# Altium integrated library Common-Parts-Library-Altium.IntLib: 531 symbols (part 2 of 2)
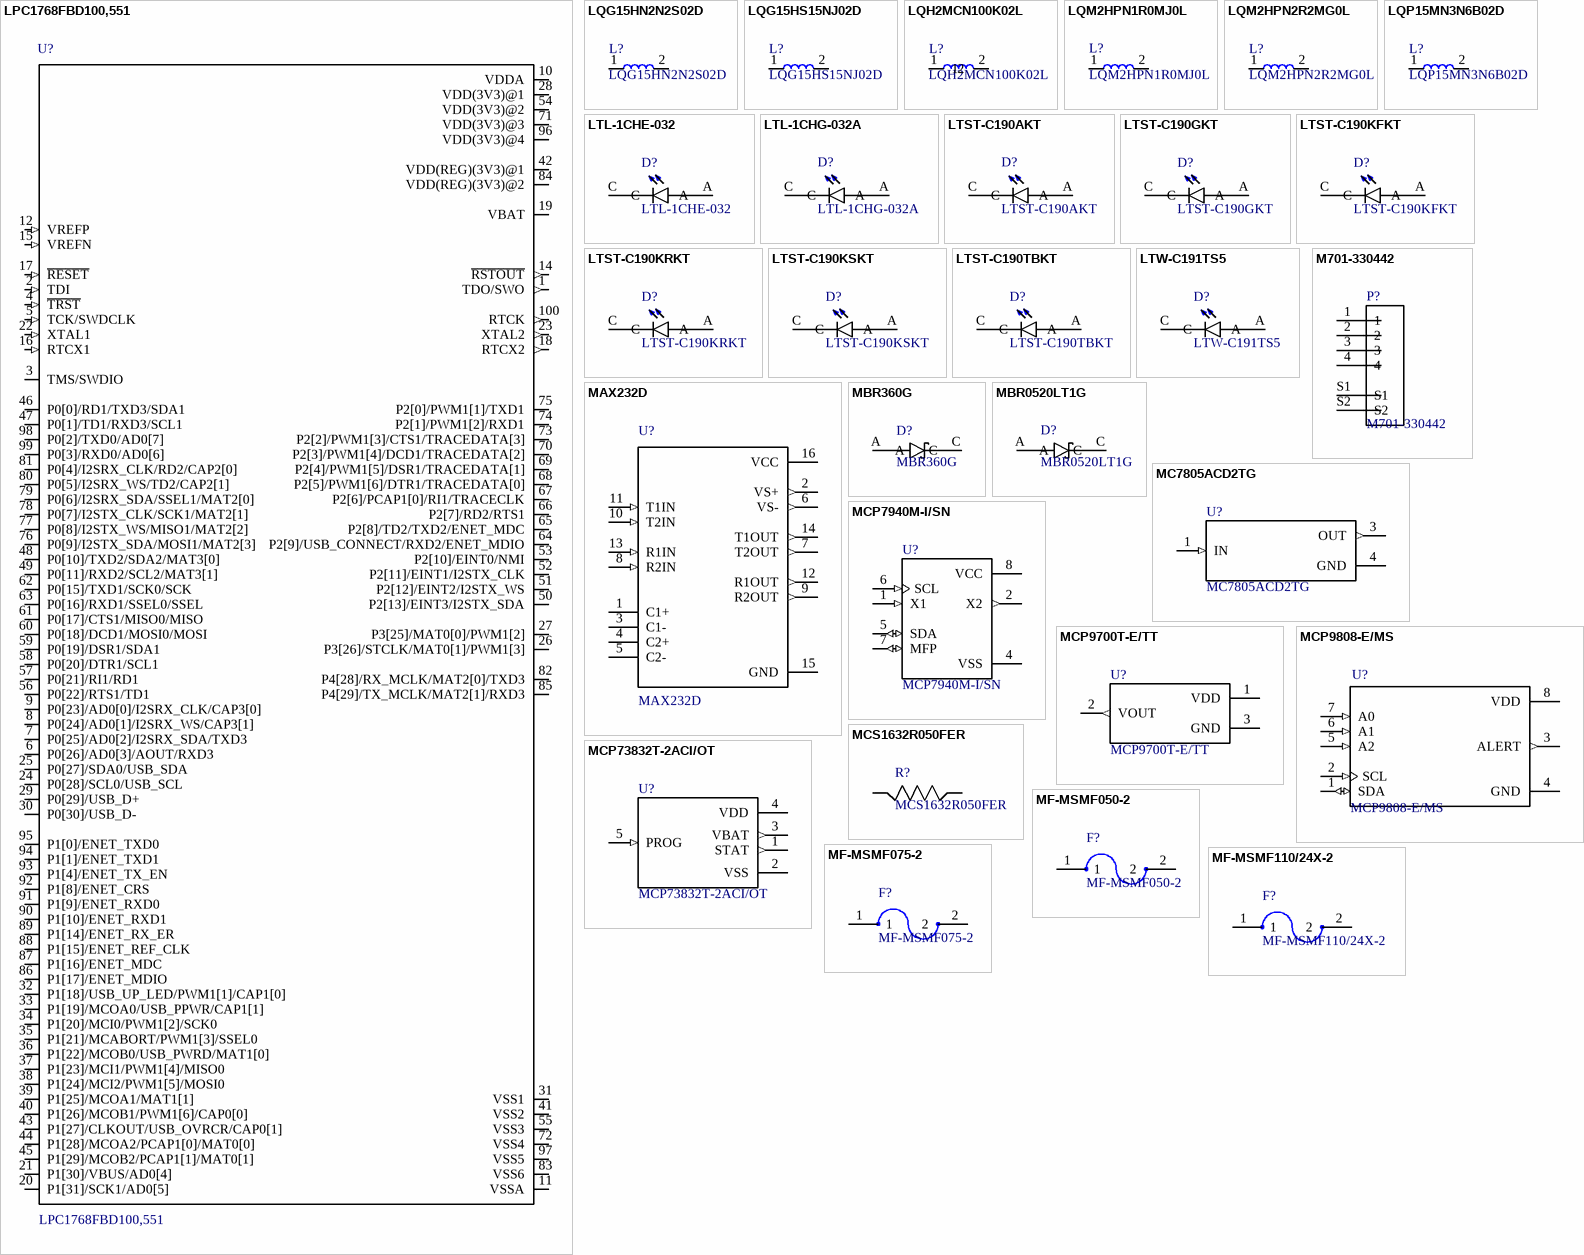
[diagram p15: symbols LPC1768FBD100,551 to MF-MSMF110/24X-2]

## LPC1768FBD100,551
designator U?
Value: *
footprint QFP50P1600X1600X160-100N
pins: 1 TDO/SWO (out), 2 TDI (in), 3 TMS/SWDIO (io), 4 ~{TRST} (in), 5 TCK/SWDCLK (in), 6 P0[26]/AD0[3]/AOUT/RXD3 (io), 7 P0[25]/AD0[2]/I2SRX_SDA/TXD3 (io), 8 P0[24]/AD0[1]/I2SRX_WS/CAP3[1] (io), 9 P0[23]/AD0[0]/I2SRX_CLK/CAP3[0] (io), 10 VDDA (power), 11 VSSA (power), 12 VREFP (in), 14 ~{RSTOUT} (out), 15 VREFN (in), 16 RTCX1 (in), 17 ~{RESET} (in), 18 RTCX2 (out), 19 VBAT (power), 20 P1[31]/SCK1/AD0[5] (io), 21 P1[30]/VBUS/AD0[4] (io), 22 XTAL1 (in), 23 XTAL2 (out), 24 P0[28]/SCL0/USB_SCL (io), 25 P0[27]/SDA0/USB_SDA (io), 26 P3[26]/STCLK/MAT0[1]/PWM1[3] (io), 27 P3[25]/MAT0[0]/PWM1[2] (io), 28 VDD(3V3)@1 (power), 29 P0[29]/USB_D+ (io), 30 P0[30]/USB_D- (io), 31 VSS1 (power), 32 P1[18]/USB_UP_LED/PWM1[1]/CAP1[0] (io), 33 P1[19]/MCOA0/USB_PPWR/CAP1[1] (io), 34 P1[20]/MCI0/PWM1[2]/SCK0 (io), 35 P1[21]/MCABORT/PWM1[3]/SSEL0 (io), 36 P1[22]/MCOB0/USB_PWRD/MAT1[0] (io), 37 P1[23]/MCI1/PWM1[4]/MISO0 (io), 38 P1[24]/MCI2/PWM1[5]/MOSI0 (io), 39 P1[25]/MCOA1/MAT1[1] (io), 40 P1[26]/MCOB1/PWM1[6]/CAP0[0] (io), 41 VSS2 (power), 42 VDD(REG)(3V3)@1 (power), 43 P1[27]/CLKOUT/USB_OVRCR/CAP0[1] (io), 44 P1[28]/MCOA2/PCAP1[0]/MAT0[0] (io), 45 P1[29]/MCOB2/PCAP1[1]/MAT0[1] (io), 46 P0[0]/RD1/TXD3/SDA1 (io), 47 P0[1]/TD1/RXD3/SCL1 (io), 48 P0[10]/TXD2/SDA2/MAT3[0] (io), 49 P0[11]/RXD2/SCL2/MAT3[1] (io), 50 P2[13]/EINT3/I2STX_SDA (io), 51 P2[12]/EINT2/I2STX_WS (io), 52 P2[11]/EINT1/I2STX_CLK (io), 53 P2[10]/EINT0/NMI (io), 54 VDD(3V3)@2 (power), 55 VSS3 (power), 56 P0[22]/RTS1/TD1 (io), 57 P0[21]/RI1/RD1 (io), 58 P0[20]/DTR1/SCL1 (io), 59 P0[19]/DSR1/SDA1 (io), 60 P0[18]/DCD1/MOSI0/MOSI (io), 61 P0[17]/CTS1/MISO0/MISO (io), 62 P0[15]/TXD1/SCK0/SCK (io), 63 P0[16]/RXD1/SSEL0/SSEL (io), 64 P2[9]/USB_CONNECT/RXD2/ENET_MDIO (io), 65 P2[8]/TD2/TXD2/ENET_MDC (io), 66 P2[7]/RD2/RTS1 (io), 67 P2[6]/PCAP1[0]/RI1/TRACECLK (io), 68 P2[5]/PWM1[6]/DTR1/TRACEDATA[0] (io), 69 P2[4]/PWM1[5]/DSR1/TRACEDATA[1] (io), 70 P2[3]/PWM1[4]/DCD1/TRACEDATA[2] (io), 71 VDD(3V3)@3 (power), 72 VSS4 (power), 73 P2[2]/PWM1[3]/CTS1/TRACEDATA[3] (io), 74 P2[1]/PWM1[2]/RXD1 (io), 75 P2[0]/PWM1[1]/TXD1 (io), 76 P0[9]/I2STX_SDA/MOSI1/MAT2[3] (io), 77 P0[8]/I2STX_WS/MISO1/MAT2[2] (io), 78 P0[7]/I2STX_CLK/SCK1/MAT2[1] (io), 79 P0[6]/I2SRX_SDA/SSEL1/MAT2[0] (io), 80 P0[5]/I2SRX_WS/TD2/CAP2[1] (io), 81 P0[4]/I2SRX_CLK/RD2/CAP2[0] (io), 82 P4[28]/RX_MCLK/MAT2[0]/TXD3 (io), 83 VSS6 (power), 84 VDD(REG)(3V3)@2 (power), 85 P4[29]/TX_MCLK/MAT2[1]/RXD3 (io), 86 P1[17]/ENET_MDIO (io), 87 P1[16]/ENET_MDC (io), 88 P1[15]/ENET_REF_CLK (io), 89 P1[14]/ENET_RX_ER (io), 90 P1[10]/ENET_RXD1 (io), 91 P1[9]/ENET_RXD0 (io), 92 P1[8]/ENET_CRS (io), 93 P1[4]/ENET_TX_EN (io), 94 P1[1]/ENET_TXD1 (io), 95 P1[0]/ENET_TXD0 (io), 96 VDD(3V3)@4 (power), 97 VSS5 (power), 98 P0[2]/TXD0/AD0[7] (io), 99 P0[3]/RXD0/AD0[6] (io), 100 RTCK (out)

## LQG15HN2N2S02D
designator L?
Value: *
footprint INDC1005X55
pins: 1, 2

## LQG15HS15NJ02D
designator L?
Value: *
footprint LQG15HS15NJ02D_INDC1005X55
pins: 1, 2

## LQH2MCN100K02L
designator L?
Value: *
footprint INDC2016X95
pins: 1, 2

## LQM2HPN1R0MJ0L
designator L?
Value: *
footprint INDC2520X120
pins: 1, 2

## LQM2HPN2R2MG0L
designator L?
Value: *
footprint INDC2520X100
pins: 1, 2

## LQP15MN3N6B02D
designator L?
Value: *
footprint INDC1005X45
pins: 1, 2

## LTL-1CHE-032
designator D?
Value: *
footprint LED_LTL-1CHE-032_LTL-1CHE-032(Primary)
pins: A, C

## LTL-1CHG-032A
designator D?
Value: *
footprint LED_LTL-1CHG-032A_LTL-1CHG-032A(Primary)
pins: A, C

## LTST-C190AKT
designator D?
Value: *
footprint LTST-C190AKT_LEDM1608X80_LTST-C190AKT(Primary)
pins: A, C

## LTST-C190GKT
designator D?
Value: *
footprint LTST-C190GKT_LEDM1608X80_LTST-C190GKT(Primary)
pins: A, C

## LTST-C190KFKT
designator D?
Value: *
footprint LTST-C190KFKT_LEDM1608X80_LTST-C190KFKT(Primary)
pins: A, C

## LTST-C190KRKT
designator D?
Value: *
footprint LTST-C190KRKT_LEDM1608X80_LTST-C190KRKT(Primary)
pins: A, C

## LTST-C190KSKT
designator D?
Value: *
footprint LTST-C190KSKT_LEDM1608X80_LTST-C190KSKT(Primary)
pins: A, C

## LTST-C190TBKT
designator D?
Value: *
footprint LEDM1608X80_LTST-C190TBKT(Primary)
pins: A, C

## LTW-C191TS5
designator D?
Value: *
footprint LEDM1608X55_LTW-C191TS5(Primary)
pins: A, C

## M701-330442
designator P?
Value: *
footprint HARWIN_M701-330442_M701-330442(Primary)
pins: 1, 2, 3, 4, S1, S2

## MAX232D
designator U?
Value: *
footprint SOIC127P600X175-16N
pins: 1 C1+, 2 VS+ (out), 3 C1-, 4 C2+, 5 C2-, 6 VS- (out), 7 T2OUT (out), 8 R2IN (in), 9 R2OUT (out), 10 T2IN (in), 11 T1IN (in), 12 R1OUT (out), 13 R1IN (in), 14 T1OUT (out), 15 GND (power), 16 VCC (power)

## MBR360G
designator D?
Value: *
footprint DIOAD950W125L840D505_MBR360G(Primary)
pins: A, C

## MBR0520LT1G
designator D?
Value: *
footprint SOD3716X135N_MBR0520LT1G(Primary)
pins: A, C

## MC7805ACD2TG
designator U?
Value: *
footprint TO254P1420X457-3N
pins: 1 IN (in), 3 OUT (out), 4 GND (power)

## MCP7940M-I/SN
designator U?
Value: *
footprint MCP7940M-I/SN_SOIC127P600X175-8N
pins: 1 X1 (in), 2 X2 (out), 4 VSS, 5 SDA (io), 6 SCL (in), 7 MFP (io), 8 VCC (power)

## MCP9700T-E/TT
designator U?
Value: *
footprint SOT95P237X112-3N
pins: 1 VDD (power), 2 VOUT (out), 3 GND (power)

## MCP9808-E/MS
designator U?
Value: *
footprint SOP65P490X110-8N
pins: 1 SDA (io), 2 SCL (in), 3 ALERT (out), 4 GND (power), 5 A2 (in), 6 A1 (in), 7 A0 (in), 8 VDD (power)

## MCP73832T-2ACI/OT
designator U?
Value: *
footprint SOT95P270X145-5N
pins: 1 STAT (out), 2 VSS (power), 3 VBAT (out), 4 VDD (power), 5 PROG (in)

## MCS1632R050FER
designator R?
Value: *
footprint RESC3216X62
pins: 1, 2

## MF-MSMF050-2
designator F?
Value: *
footprint MF-MSMF050-2_FUSM4632X85
pins: 1, 2

## MF-MSMF075-2
designator F?
Value: *
footprint FUSM4632X85
pins: 1, 2

## MF-MSMF110/24X-2
designator F?
Value: *
footprint FUSM4632X160
pins: 1, 2

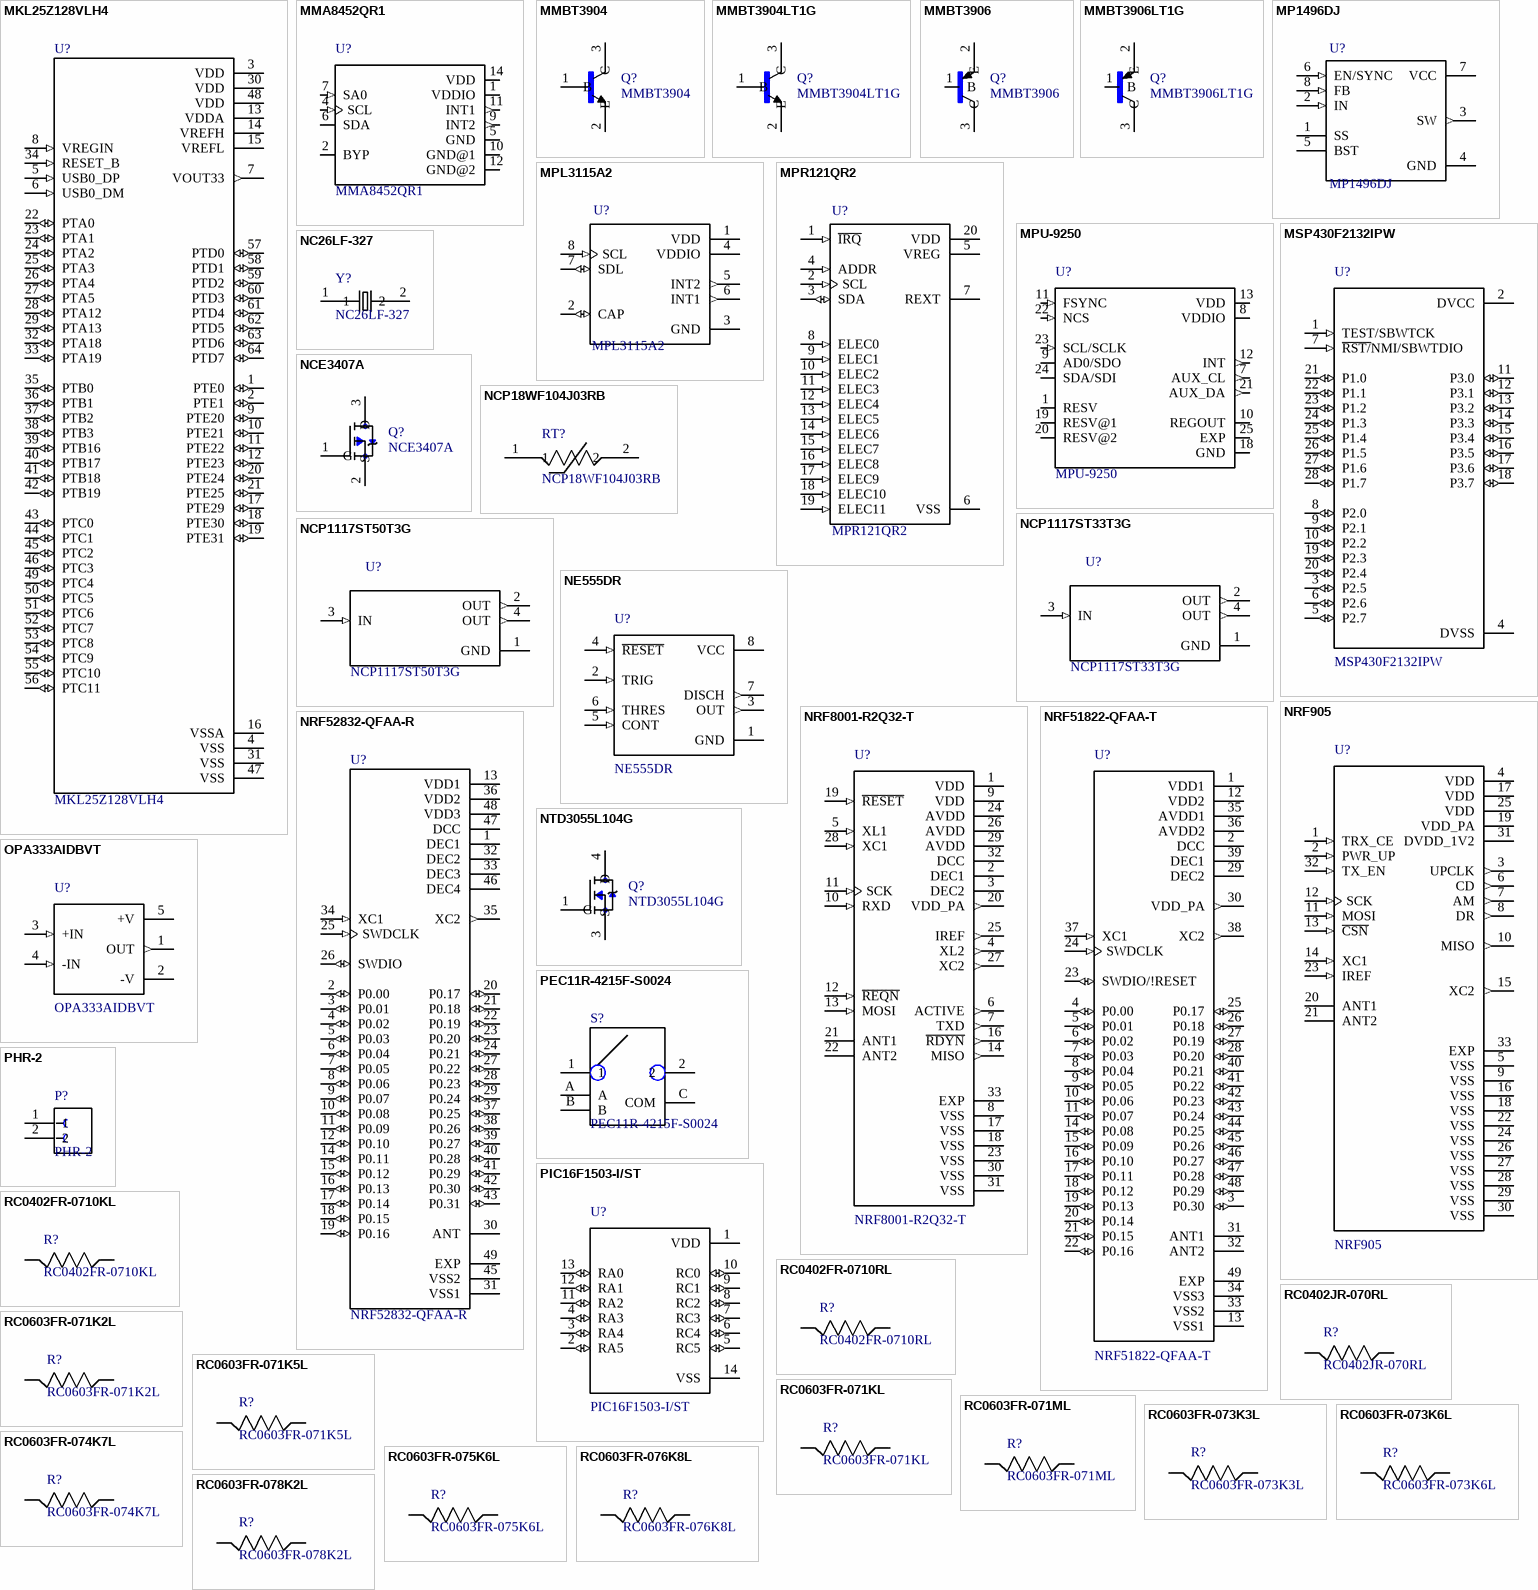
[diagram p11: symbols MKL25Z128VLH4 to RC0603FR-078K2L]

## MKL25Z128VLH4
designator U?
Value: *
footprint MKL25Z128VLH4_QFP50P1200X1200X160-64N
pins: 1 PTE0 (io), 2 PTE1 (io), 3 VDD (power), 4 VSS (power), 5 USB0_DP (in), 6 USB0_DM (in), 7 VOUT33 (out), 8 VREGIN (in), 9 PTE20 (io), 10 PTE21 (io), 11 PTE22 (io), 12 PTE23 (io), 13 VDDA (power), 14 VREFH (power), 15 VREFL (power), 16 VSSA (power), 17 PTE29 (io), 18 PTE30 (io), 19 PTE31 (io), 20 PTE24 (io), 21 PTE25 (io), 22 PTA0 (io), 23 PTA1 (io), 24 PTA2 (io), 25 PTA3 (io), 26 PTA4 (io), 27 PTA5 (io), 28 PTA12 (io), 29 PTA13 (io), 30 VDD (power), 31 VSS (power), 32 PTA18 (io), 33 PTA19 (io), 34 RESET_B (in), 35 PTB0 (io), 36 PTB1 (io), 37 PTB2 (io), 38 PTB3 (io), 39 PTB16 (io), 40 PTB17 (io), 41 PTB18 (io), 42 PTB19 (io), 43 PTC0 (io), 44 PTC1 (io), 45 PTC2 (io), 46 PTC3 (io), 47 VSS (power), 48 VDD (power), 49 PTC4 (io), 50 PTC5 (io), 51 PTC6 (io), 52 PTC7 (io), 53 PTC8 (io), 54 PTC9 (io), 55 PTC10 (io), 56 PTC11 (io), 57 PTD0 (io), 58 PTD1 (io), 59 PTD2 (io), 60 PTD3 (io), 61 PTD4 (io), 62 PTD5 (io), 63 PTD6 (io), 64 PTD7 (io)

## MMA8452QR1
designator U?
Value: *
footprint PQFN50P300X300X100-16N
pins: 1 VDDIO (power), 2 BYP, 4 SCL (in), 5 GND (power), 6 SDA (io), 7 SA0 (in), 9 INT2 (out), 10 GND@1 (power), 11 INT1 (out), 12 GND@2 (power), 14 VDD (power)

## MMBT3904
designator Q?
Value: *
footprint MMBT3904_SOT95P240X120-3N
pins: 1 B, 2 E, 3 C

## MMBT3904LT1G
designator Q?
Value: *
footprint MMBT3904LT1G_SOT95P240X111-3N
pins: 1 B, 2 E, 3 C

## MMBT3906
designator Q?
Value: *
footprint MMBT3906_SOT95P240X120-3N
pins: 1 B, 2 E, 3 C

## MMBT3906LT1G
designator Q?
Value: *
footprint SOT95P240X111-3N
pins: 1 B, 2 E, 3 C

## MP1496DJ
designator U?
Value: *
footprint SOT65P280X90-8N
pins: 1 SS, 2 IN (in), 3 SW (out), 4 GND (power), 5 BST, 6 EN/SYNC (in), 7 VCC (power), 8 FB (in)

## MPL3115A2
designator U?
Value: *
footprint PSON125P300X500X120-8N
pins: 1 VDD (power), 2 CAP (io), 3 GND (power), 4 VDDIO (power), 5 INT2 (out), 6 INT1 (out), 7 SDL (io), 8 SCL (in)

## MPR121QR2
designator U?
Value: *
footprint QFN40P300X300X60-20N
pins: 1 ~{IRQ} (in), 2 SCL (in), 3 SDA (io), 4 ADDR (in), 5 VREG (power), 6 VSS (power), 7 REXT, 8 ELEC0 (in), 9 ELEC1 (in), 10 ELEC2 (in), 11 ELEC3 (in), 12 ELEC4 (in), 13 ELEC5 (in), 14 ELEC6 (in), 15 ELEC7 (in), 16 ELEC8 (in), 17 ELEC9 (in), 18 ELEC10 (in), 19 ELEC11 (in), 20 VDD (power)

## MPU-9250
designator U?
Value: *
footprint QFN40P300X300X105-25N
pins: 1 RESV (power), 7 AUX_CL (out), 8 VDDIO (power), 9 AD0/SDO (io), 10 REGOUT, 11 FSYNC (in), 12 INT (out), 13 VDD (power), 18 GND (power), 19 RESV@1 (power), 20 RESV@2 (power), 21 AUX_DA (out), 22 NCS (in), 23 SCL/SCLK (in), 24 SDA/SDI (io), 25 EXP (power)

## MSP430F2132IPW
designator U?
Value: *
footprint SOP65P640X120-28N
pins: 1 TEST/SBWTCK (in), 2 DVCC (power), 3 P2.5 (io), 4 DVSS (power), 5 P2.7 (io), 6 P2.6 (io), 7 ~{RST/}NMI/SBWTDIO (in), 8 P2.0 (io), 9 P2.1 (io), 10 P2.2 (io), 11 P3.0 (io), 12 P3.1 (io), 13 P3.2 (io), 14 P3.3 (io), 15 P3.4 (io), 16 P3.5 (io), 17 P3.6 (io), 18 P3.7 (io), 19 P2.3 (io), 20 P2.4 (io), 21 P1.0 (io), 22 P1.1 (io), 23 P1.2 (io), 24 P1.3 (io), 25 P1.4 (io), 26 P1.5 (io), 27 P1.6 (io), 28 P1.7 (io)

## NC26LF-327
designator Y?
Value: *
footprint XTAL_NC26LF-327
pins: 1, 2

## NCE3407A
designator Q?
Value: *
footprint SOT95P240X115-3N
pins: 1 G, 2 S, 3 D

## NCP18WF104J03RB
designator RT?
Value: *
footprint THERM_NCP18WF104J03RB
pins: 1, 2

## NCP1117ST33T3G
designator U?
Value: *
footprint NCP1117ST33T3G_SOT230P700X180-4N
pins: 1 GND (power), 2 OUT (out), 3 IN (in), 4 OUT (out)

## NCP1117ST50T3G
designator U?
Value: *
footprint SOT230P700X180-4N
pins: 1 GND (power), 2 OUT (out), 3 IN (in), 4 OUT (out)

## NE555DR
designator U?
Value: *
footprint SOIC127P600X175-8N
pins: 1 GND (power), 2 TRIG (in), 3 OUT (out), 4 ~{RESET} (in), 5 CONT (in), 6 THRES (in), 7 DISCH (out), 8 VCC (power)

## NRF905
designator U?
Value: *
footprint QFN50P500X500X90-33N
pins: 1 TRX_CE (in), 2 PWR_UP (in), 3 UPCLK (out), 4 VDD (power), 5 VSS (power), 6 CD (out), 7 AM (out), 8 DR (out), 9 VSS (power), 10 MISO (out), 11 MOSI (in), 12 SCK (in), 13 ~{CSN} (in), 14 XC1 (in), 15 XC2 (out), 16 VSS (power), 17 VDD (power), 18 VSS (power), 19 VDD_PA (power), 20 ANT1, 21 ANT2, 22 VSS (power), 23 IREF (in), 24 VSS (power), 25 VDD (power), 26 VSS (power), 27 VSS (power), 28 VSS (power), 29 VSS (power), 30 VSS (power), 31 DVDD_1V2 (power), 32 TX_EN (in), 33 EXP (power)

## NRF8001-R2Q32-T
designator U?
Value: *
footprint NRF8001-R2Q32-T_QFN50P500X500X90-33N
pins: 1 VDD (power), 2 DEC1 (power), 3 DEC2 (power), 4 XL2 (out), 5 XL1 (in), 6 ACTIVE (out), 7 TXD (out), 8 VSS (power), 9 VDD (power), 10 RXD (in), 11 SCK (in), 12 ~{REQN} (in), 13 MOSI (in), 14 MISO (out), 16 ~{RDYN} (out), 17 VSS (power), 18 VSS (power), 19 ~{RESET} (in), 20 VDD_PA (out), 21 ANT1, 22 ANT2, 23 VSS (power), 24 AVDD (power), 25 IREF (out), 26 AVDD (power), 27 XC2 (out), 28 XC1 (in), 29 AVDD (power), 30 VSS (power), 31 VSS (power), 32 DCC (power), 33 EXP (power)

## NRF51822-QFAA-T
designator U?
Value: *
footprint NRF51822-QFAA-T_QFN40P600X600X90-49N
pins: 1 VDD1 (power), 2 DCC (power), 3 P0.30 (io), 4 P0.00 (io), 5 P0.01 (io), 6 P0.02 (io), 7 P0.03 (io), 8 P0.04 (io), 9 P0.05 (io), 10 P0.06 (io), 11 P0.07 (io), 12 VDD2 (power), 13 VSS1 (power), 14 P0.08 (io), 15 P0.09 (io), 16 P0.10 (io), 17 P0.11 (io), 18 P0.12 (io), 19 P0.13 (io), 20 P0.14 (io), 21 P0.15 (io), 22 P0.16 (io), 23 SWDIO/!RESET (io), 24 SWDCLK (in), 25 P0.17 (io), 26 P0.18 (io), 27 P0.19 (io), 28 P0.20 (io), 29 DEC2 (power), 30 VDD_PA (out), 31 ANT1, 32 ANT2, 33 VSS2 (power), 34 VSS3 (power), 35 AVDD1 (power), 36 AVDD2 (power), 37 XC1 (in), 38 XC2 (out), 39 DEC1 (power), 40 P0.21 (io), 41 P0.22 (io), 42 P0.23 (io), 43 P0.24 (io), 44 P0.25 (io), 45 P0.26 (io), 46 P0.27 (io), 47 P0.28 (io), 48 P0.29 (io), 49 EXP (power)

## NRF52832-QFAA-R
designator U?
Value: *
footprint QFN40P600X600X90-49N
pins: 1 DEC1 (power), 2 P0.00 (io), 3 P0.01 (io), 4 P0.02 (io), 5 P0.03 (io), 6 P0.04 (io), 7 P0.05 (io), 8 P0.06 (io), 9 P0.07 (io), 10 P0.08 (io), 11 P0.09 (io), 12 P0.10 (io), 13 VDD1 (power), 14 P0.11 (io), 15 P0.12 (io), 16 P0.13 (io), 17 P0.14 (io), 18 P0.15 (io), 19 P0.16 (io), 20 P0.17 (io), 21 P0.18 (io), 22 P0.19 (io), 23 P0.20 (io), 24 P0.21 (io), 25 SWDCLK (in), 26 SWDIO (io), 27 P0.22 (io), 28 P0.23 (io), 29 P0.24 (io), 30 ANT, 31 VSS1 (power), 32 DEC2 (power), 33 DEC3 (power), 34 XC1 (in), 35 XC2 (out), 36 VDD2 (power), 37 P0.25 (io), 38 P0.26 (io), 39 P0.27 (io), 40 P0.28 (io), 41 P0.29 (io), 42 P0.30 (io), 43 P0.31 (io), 45 VSS2 (power), 46 DEC4 (power), 47 DCC (power), 48 VDD3 (power), 49 EXP (power)

## NTD3055L104G
designator Q?
Value: *
footprint TO229P991X239-3N
pins: 1 G, 3 S, 4 D

## OPA333AIDBVT
designator U?
Value: *
footprint OPA333AIDBVT_SOT95P280X145-5N
pins: 1 OUT (out), 2 -V (power), 3 +IN (in), 4 -IN (in), 5 +V (power)

## PEC11R-4215F-S0024
designator S?
Value: *
footprint SW_PEC11R-4215F-S0024_PEC11R-4215F-S0024(Primary)
pins: 1, 2, A, B, C COM

## PHR-2
designator P?
Value: *
footprint JST_PHR-2
pins: 1, 2

## PIC16F1503-I/ST
designator U?
Value: *
footprint SOP65P640X120-14N
pins: 1 VDD (power), 2 RA5 (io), 3 RA4 (io), 4 RA3 (io), 5 RC5 (io), 6 RC4 (io), 7 RC3 (io), 8 RC2 (io), 9 RC1 (io), 10 RC0 (io), 11 RA2 (io), 12 RA1 (io), 13 RA0 (io), 14 VSS (power)

## RC0402FR-0710KL
designator R?
Value: *
footprint RC0402FR-0710KL_RESC1005X40
pins: 1, 2

## RC0402FR-0710RL
designator R?
Value: *
footprint RC0402FR-0710RL_RESC1005X40
pins: 1, 2

## RC0402JR-070RL
designator R?
Value: *
footprint RESC1005X40
pins: 1, 2

## RC0603FR-071K2L
designator R?
Value: *
footprint RC0603FR-071K2L_RESC1608X55
pins: 1, 2

## RC0603FR-071K5L
designator R?
Value: *
footprint RC0603FR-071K5L_RESC1608X55
pins: 1, 2

## RC0603FR-071KL
designator R?
Value: *
footprint RC0603FR-071KL_RESC1608X55
pins: 1, 2

## RC0603FR-071ML
designator R?
Value: *
footprint RC0603FR-071ML_RESC1608X55
pins: 1, 2

## RC0603FR-073K3L
designator R?
Value: *
footprint RC0603FR-073K3L_RESC1608X55
pins: 1, 2

## RC0603FR-073K6L
designator R?
Value: *
footprint RC0603FR-073K6L_RESC1608X55
pins: 1, 2

## RC0603FR-074K7L
designator R?
Value: *
footprint RC0603FR-074K7L_RESC1608X55
pins: 1, 2

## RC0603FR-075K6L
designator R?
Value: *
footprint RC0603FR-075K6L_RESC1608X55
pins: 1, 2

## RC0603FR-076K8L
designator R?
Value: *
footprint RC0603FR-076K8L_RESC1608X55
pins: 1, 2

## RC0603FR-078K2L
designator R?
Value: *
footprint RC0603FR-078K2L_RESC1608X55
pins: 1, 2

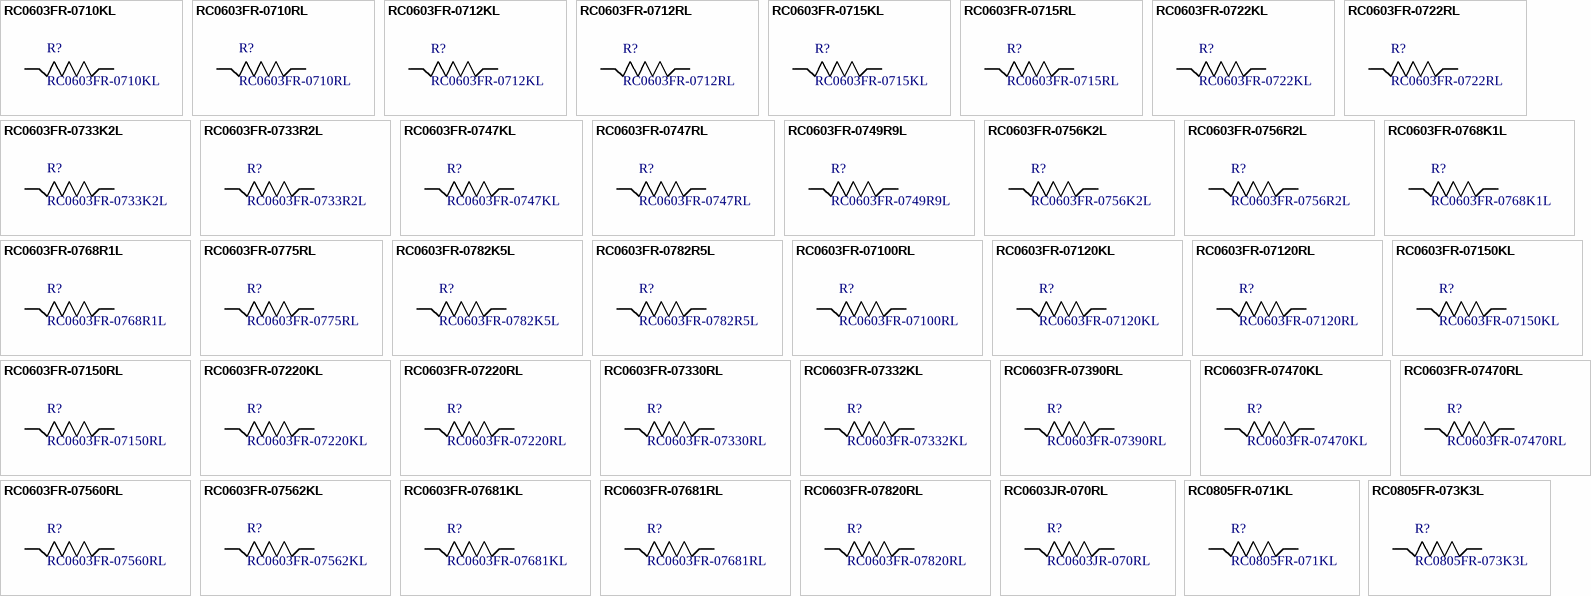
[diagram p12: symbols RC0603FR-0710KL to RC0805FR-073K3L]

## RC0603FR-0710KL
designator R?
Value: *
footprint RC0603FR-0710KL_RESC1608X55
pins: 1, 2

## RC0603FR-0710RL
designator R?
Value: *
footprint RC0603FR-0710RL_RESC1608X55
pins: 1, 2

## RC0603FR-0712KL
designator R?
Value: *
footprint RC0603FR-0712KL_RESC1608X55
pins: 1, 2

## RC0603FR-0712RL
designator R?
Value: *
footprint RC0603FR-0712RL_RESC1608X55
pins: 1, 2

## RC0603FR-0715KL
designator R?
Value: *
footprint RC0603FR-0715KL_RESC1608X55
pins: 1, 2

## RC0603FR-0715RL
designator R?
Value: *
footprint RC0603FR-0715RL_RESC1608X55
pins: 1, 2

## RC0603FR-0722KL
designator R?
Value: *
footprint RC0603FR-0722KL_RESC1608X55
pins: 1, 2

## RC0603FR-0722RL
designator R?
Value: *
footprint RC0603FR-0722RL_RESC1608X55
pins: 1, 2

## RC0603FR-0733K2L
designator R?
Value: *
footprint RC0603FR-0733K2L_RESC1608X55
pins: 1, 2

## RC0603FR-0733R2L
designator R?
Value: *
footprint RC0603FR-0733R2L_RESC1608X55
pins: 1, 2

## RC0603FR-0747KL
designator R?
Value: *
footprint RC0603FR-0747KL_RESC1608X55
pins: 1, 2

## RC0603FR-0747RL
designator R?
Value: *
footprint RC0603FR-0747RL_RESC1608X55
pins: 1, 2

## RC0603FR-0749R9L
designator R?
Value: *
footprint RC0603FR-0749R9L_RESC1608X55
pins: 1, 2

## RC0603FR-0756K2L
designator R?
Value: *
footprint RC0603FR-0756K2L_RESC1608X55
pins: 1, 2

## RC0603FR-0756R2L
designator R?
Value: *
footprint RC0603FR-0756R2L_RESC1608X55
pins: 1, 2

## RC0603FR-0768K1L
designator R?
Value: *
footprint RC0603FR-0768K1L_RESC1608X55
pins: 1, 2

## RC0603FR-0768R1L
designator R?
Value: *
footprint RC0603FR-0768R1L_RESC1608X55
pins: 1, 2

## RC0603FR-0775RL
designator R?
Value: *
footprint RC0603FR-0775RL_RESC1608X55
pins: 1, 2

## RC0603FR-0782K5L
designator R?
Value: *
footprint RC0603FR-0782K5L_RESC1608X55
pins: 1, 2

## RC0603FR-0782R5L
designator R?
Value: *
footprint RC0603FR-0782R5L_RESC1608X55
pins: 1, 2

## RC0603FR-07100RL
designator R?
Value: *
footprint RC0603FR-07100RL_RESC1608X55
pins: 1, 2

## RC0603FR-07120KL
designator R?
Value: *
footprint RC0603FR-07120KL_RESC1608X55
pins: 1, 2

## RC0603FR-07120RL
designator R?
Value: *
footprint RC0603FR-07120RL_RESC1608X55
pins: 1, 2

## RC0603FR-07150KL
designator R?
Value: *
footprint RC0603FR-07150KL_RESC1608X55
pins: 1, 2

## RC0603FR-07150RL
designator R?
Value: *
footprint RC0603FR-07150RL_RESC1608X55
pins: 1, 2

## RC0603FR-07220KL
designator R?
Value: *
footprint RC0603FR-07220KL_RESC1608X55
pins: 1, 2

## RC0603FR-07220RL
designator R?
Value: *
footprint RC0603FR-07220RL_RESC1608X55
pins: 1, 2

## RC0603FR-07330RL
designator R?
Value: *
footprint RC0603FR-07330RL_RESC1608X55
pins: 1, 2

## RC0603FR-07332KL
designator R?
Value: *
footprint RC0603FR-07332KL_RESC1608X55
pins: 1, 2

## RC0603FR-07390RL
designator R?
Value: *
footprint RC0603FR-07390RL_RESC1608X55
pins: 1, 2

## RC0603FR-07470KL
designator R?
Value: *
footprint RC0603FR-07470KL_RESC1608X55
pins: 1, 2

## RC0603FR-07470RL
designator R?
Value: *
footprint RC0603FR-07470RL_RESC1608X55
pins: 1, 2

## RC0603FR-07560RL
designator R?
Value: *
footprint RC0603FR-07560RL_RESC1608X55
pins: 1, 2

## RC0603FR-07562KL
designator R?
Value: *
footprint RC0603FR-07562KL_RESC1608X55
pins: 1, 2

## RC0603FR-07681KL
designator R?
Value: *
footprint RC0603FR-07681KL_RESC1608X55
pins: 1, 2

## RC0603FR-07681RL
designator R?
Value: *
footprint RC0603FR-07681RL_RESC1608X55
pins: 1, 2

## RC0603FR-07820RL
designator R?
Value: *
footprint RC0603FR-07820RL_RESC1608X55
pins: 1, 2

## RC0603JR-070RL
designator R?
Value: *
footprint RESC1608X55
pins: 1, 2

## RC0805FR-071KL
designator R?
Value: *
footprint RC0805FR-071KL_RESC2012X60
pins: 1, 2

## RC0805FR-073K3L
designator R?
Value: *
footprint RC0805FR-073K3L_RESC2012X60
pins: 1, 2

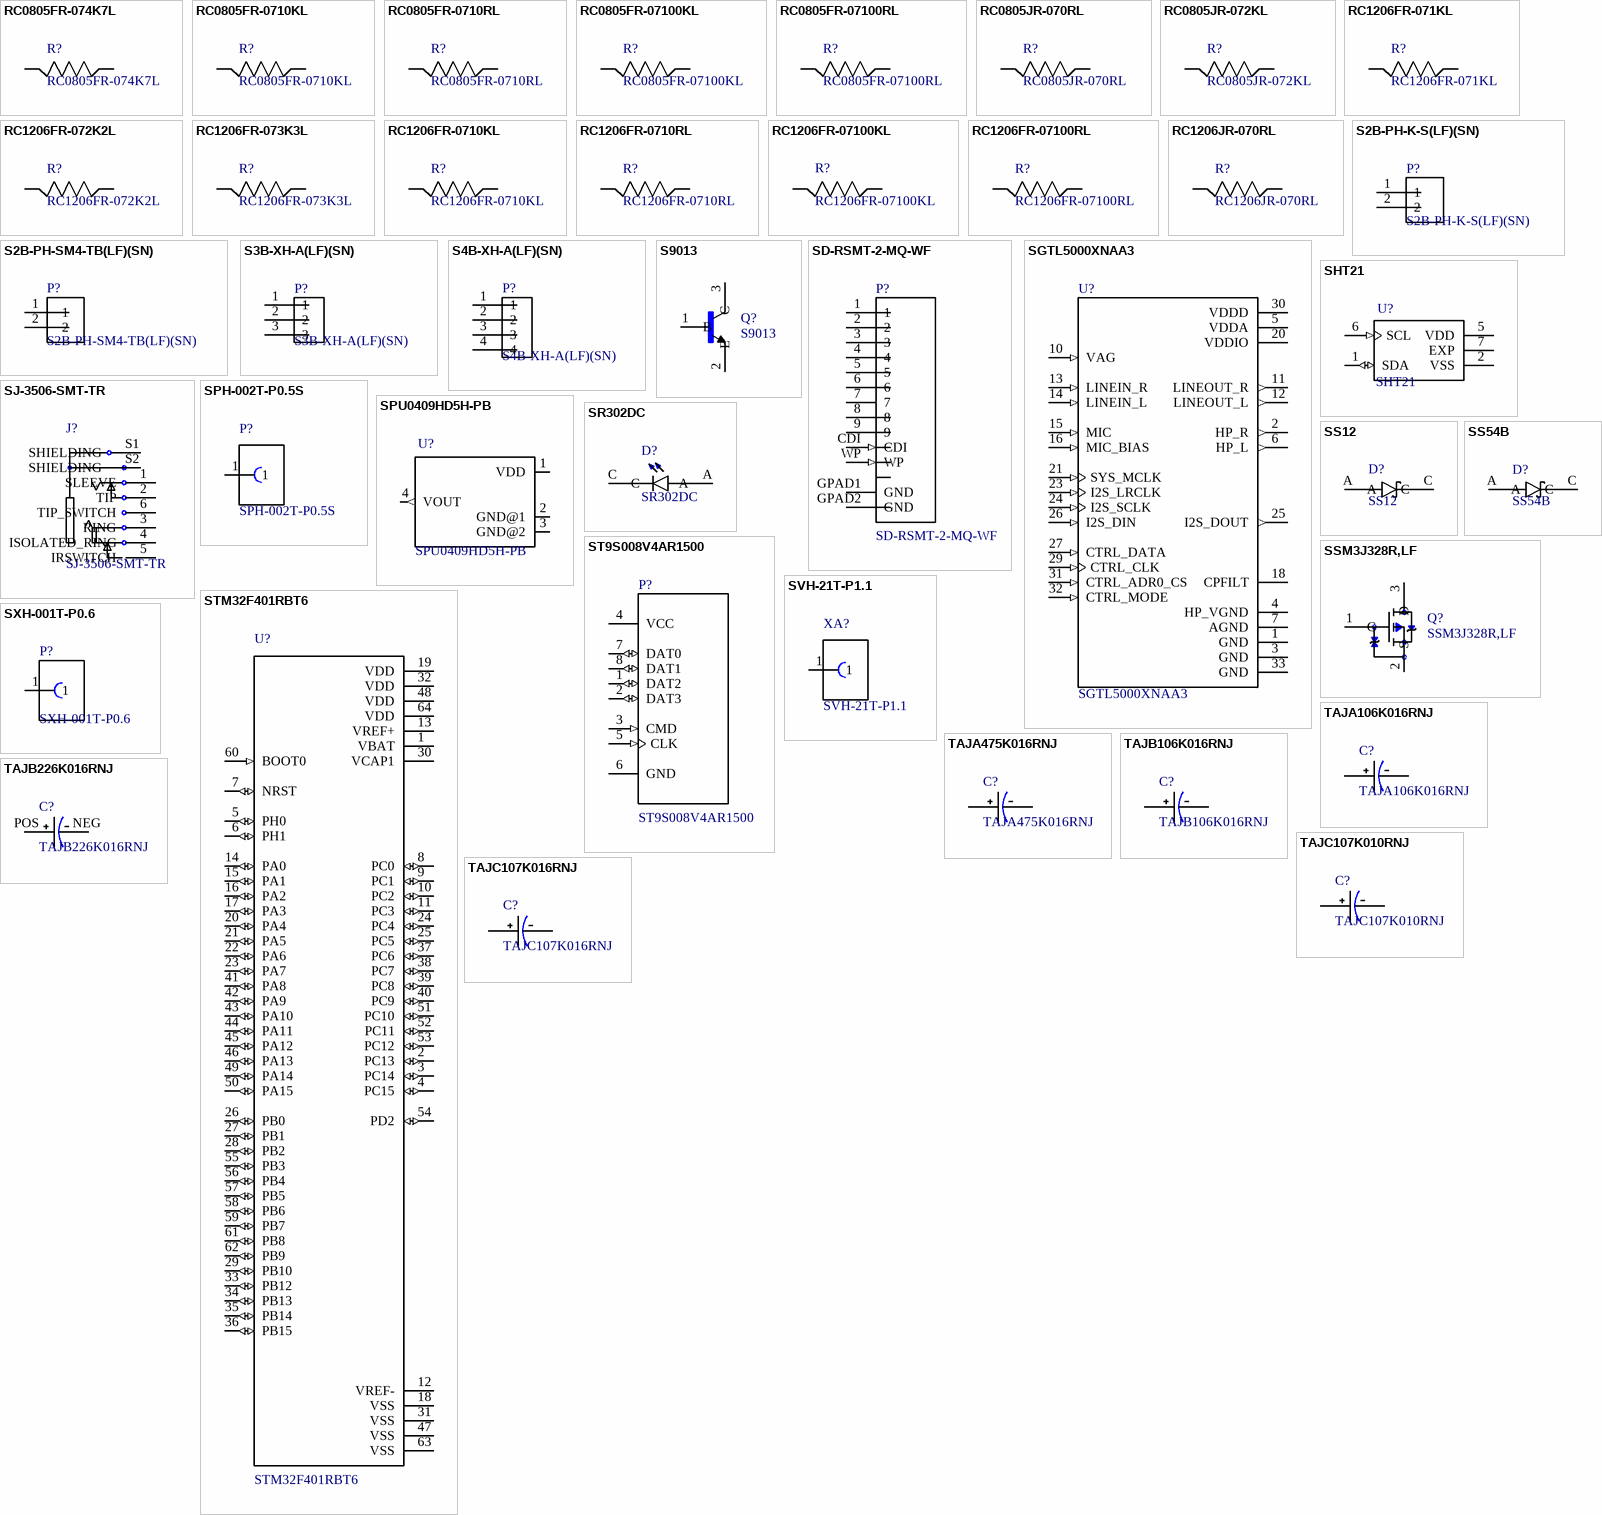
[diagram p13: symbols RC0805FR-074K7L to TAJC107K016RNJ]

## RC0805FR-074K7L
designator R?
Value: *
footprint RC0805FR-074K7L_RESC2012X60
pins: 1, 2

## RC0805FR-0710KL
designator R?
Value: *
footprint RC0805FR-0710KL_RESC2012X60
pins: 1, 2

## RC0805FR-0710RL
designator R?
Value: *
footprint RC0805FR-0710RL_RESC2012X60
pins: 1, 2

## RC0805FR-07100KL
designator R?
Value: *
footprint RC0805FR-07100KL_RESC2012X60
pins: 1, 2

## RC0805FR-07100RL
designator R?
Value: *
footprint RC0805FR-07100RL_RESC2012X60
pins: 1, 2

## RC0805JR-070RL
designator R?
Value: *
footprint RC0805JR-070RL_RESC2012X60
pins: 1, 2

## RC0805JR-072KL
designator R?
Value: *
footprint RESC2012X60
pins: 1, 2

## RC1206FR-071KL
designator R?
Value: *
footprint RC1206FR-071KL_RESC3216X65
pins: 1, 2

## RC1206FR-072K2L
designator R?
Value: *
footprint RC1206FR-072K2L_RESC3216X65
pins: 1, 2

## RC1206FR-073K3L
designator R?
Value: *
footprint RC1206FR-073K3L_RESC3216X65
pins: 1, 2

## RC1206FR-0710KL
designator R?
Value: *
footprint RC1206FR-0710KL_RESC3216X65
pins: 1, 2

## RC1206FR-0710RL
designator R?
Value: *
footprint RC1206FR-0710RL_RESC3216X65
pins: 1, 2

## RC1206FR-07100KL
designator R?
Value: *
footprint RC1206FR-07100KL_RESC3216X65
pins: 1, 2

## RC1206FR-07100RL
designator R?
Value: *
footprint RC1206FR-07100RL_RESC3216X65
pins: 1, 2

## RC1206JR-070RL
designator R?
Value: *
footprint RESC3216X65
pins: 1, 2

## S2B-PH-K-S(LF)(SN)
designator P?
Value: *
footprint JST_S2B-PH-K-S(LF)(SN)
pins: 1, 2

## S2B-PH-SM4-TB(LF)(SN)
designator P?
Value: *
footprint JST_S2B-PH-SM4-TB(LF)(SN)
pins: 1, 2

## S3B-XH-A(LF)(SN)
designator P?
Value: *
footprint JST_S3B-XH-A(LF)(SN)
pins: 1, 2, 3

## S4B-XH-A(LF)(SN)
designator P?
Value: *
footprint JST_S4B-XH-A(LF)(SN)
pins: 1, 2, 3, 4

## S9013
designator Q?
Value: *
footprint SOT95P240X120-3N
pins: 1 B, 2 E, 3 C

## SD-RSMT-2-MQ-WF
designator P?
Value: *
footprint 3M_SD-RSMT-2-MQ-WF_SD-RSMT-2-MQ-WF(Primary)
pins: 1, 2, 3, 4, 5, 6, 7, 8, 9, CDI (in), GPAD1 GND, GPAD2 GND, WP (in)

## SGTL5000XNAA3
designator U?
Value: *
footprint SGTL5000XNAA3_QFN50P500X500X100-33N
pins: 1 GND (power), 2 HP_R (out), 3 GND (power), 4 HP_VGND (power), 5 VDDA (power), 6 HP_L (out), 7 AGND (power), 10 VAG (in), 11 LINEOUT_R (out), 12 LINEOUT_L (out), 13 LINEIN_R (in), 14 LINEIN_L (in), 15 MIC (in), 16 MIC_BIAS (in), 18 CPFILT, 20 VDDIO (power), 21 SYS_MCLK (in), 23 I2S_LRCLK (in), 24 I2S_SCLK (in), 25 I2S_DOUT (out), 26 I2S_DIN (in), 27 CTRL_DATA (in), 29 CTRL_CLK (in), 30 VDDD (power), 31 CTRL_ADR0_CS (in), 32 CTRL_MODE (in), 33 GND (power)

## SHT21
designator U?
Value: *
footprint SON100P300X300X110-7N
pins: 1 SDA (io), 2 VSS (power), 5 VDD (power), 6 SCL (in), 7 EXP (power)

## SJ-3506-SMT-TR
designator J?
Value: *
footprint CUI_SJ-3506-SMT-TR_SJ-3506-SMT-TR(Primary)
pins: 1 SLEEVE, 2 TIP, 3 RING, 4 ISOLATED_RING, 5 IRSWITCH, 6 TIP_SWITCH, S1 SHIELDING, S2 SHIELDING

## SPH-002T-P0.5S
designator P?
Value: *
footprint JST_SPH-002T-P0.5S
pins: 1

## SPU0409HD5H-PB
designator U?
Value: *
footprint XCVR_SPU0409HD5H-PB
pins: 1 VDD (power), 2 GND@1 (power), 3 GND@2 (power), 4 VOUT (out)

## SR302DC
designator D?
Value: *
footprint LED_SR302DC_SR302DC(Primary)
pins: A, C

## SS12
designator D?
Value: *
footprint DIOM4427X270N_SS12(Primary)
pins: A, C

## SS54B
designator D?
Value: *
footprint DIOM4336X244N_SS54B(Primary)
pins: A, C

## SSM3J328R,LF
designator Q?
Value: *
footprint SOT95P240X88-3N
pins: 1 G, 2 S, 3 D

## ST9S008V4AR1500
designator P?
Value: *
footprint JAE_ST9S008V4AR1500
pins: 1 DAT2 (io), 2 DAT3 (io), 3 CMD (in), 4 VCC (power), 5 CLK (in), 6 GND (power), 7 DAT0 (io), 8 DAT1 (io)

## STM32F401RBT6
designator U?
Value: *
footprint QFP50P1200X1200X160-64N
pins: 1 VBAT (power), 2 PC13 (io), 3 PC14 (io), 4 PC15 (io), 5 PH0 (io), 6 PH1 (io), 7 NRST (io), 8 PC0 (io), 9 PC1 (io), 10 PC2 (io), 11 PC3 (io), 12 VREF- (power), 13 VREF+ (power), 14 PA0 (io), 15 PA1 (io), 16 PA2 (io), 17 PA3 (io), 18 VSS (power), 19 VDD (power), 20 PA4 (io), 21 PA5 (io), 22 PA6 (io), 23 PA7 (io), 24 PC4 (io), 25 PC5 (io), 26 PB0 (io), 27 PB1 (io), 28 PB2 (io), 29 PB10 (io), 30 VCAP1 (power), 31 VSS (power), 32 VDD (power), 33 PB12 (io), 34 PB13 (io), 35 PB14 (io), 36 PB15 (io), 37 PC6 (io), 38 PC7 (io), 39 PC8 (io), 40 PC9 (io), 41 PA8 (io), 42 PA9 (io), 43 PA10 (io), 44 PA11 (io), 45 PA12 (io), 46 PA13 (io), 47 VSS (power), 48 VDD (power), 49 PA14 (io), 50 PA15 (io), 51 PC10 (io), 52 PC11 (io), 53 PC12 (io), 54 PD2 (io), 55 PB3 (io), 56 PB4 (io), 57 PB5 (io), 58 PB6 (io), 59 PB7 (io), 60 BOOT0 (in), 61 PB8 (io), 62 PB9 (io), 63 VSS (power), 64 VDD (power)

## SVH-21T-P1.1
designator XA?
Value: *
footprint JST_SVH-21T-P1.1
pins: 1

## SXH-001T-P0.6
designator P?
Value: *
footprint JST_SXH-001T-P0.6
pins: 1

## TAJA106K016RNJ
designator C?
Value: *
footprint CAPMP3216X166_TAJA106K016RNJ(Primary)
pins: NEG, POS

## TAJA475K016RNJ
designator C?
Value: *
footprint TAJA475K016RNJ_CAPMP3216X166_TAJA475K016RNJ(Primary)
pins: NEG, POS

## TAJB106K016RNJ
designator C?
Value: *
footprint CAPMP3528X198_TAJB106K016RNJ(Primary)
pins: NEG, POS

## TAJB226K016RNJ
designator C?
Value: *
footprint TAJB226K016RNJ_CAPMP3528X198_TAJB226K016RNJ(Primary)
pins: NEG, POS

## TAJC107K010RNJ
designator C?
Value: *
footprint TAJC107K010RNJ_CAPMC6032X260_TAJC107K010RNJ(Primary)
pins: NEG, POS

## TAJC107K016RNJ
designator C?
Value: *
footprint CAPMC6032X260_TAJC107K016RNJ(Primary)
pins: NEG, POS

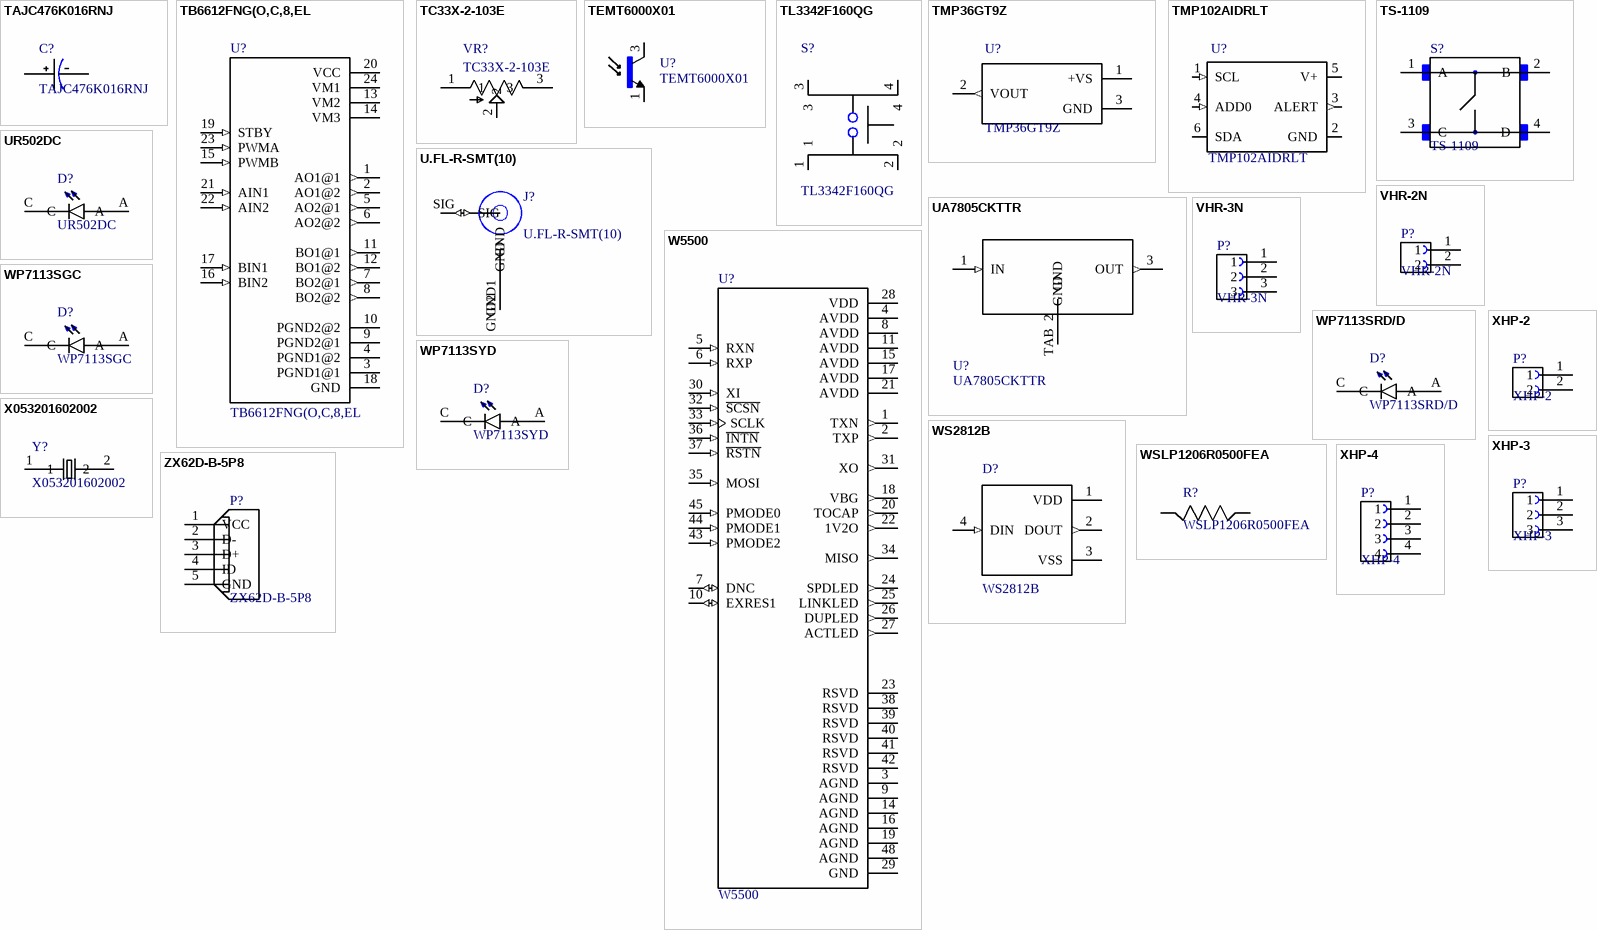
[diagram p14: symbols TAJC476K016RNJ to ZX62D-B-5P8]

## TAJC476K016RNJ
designator C?
Value: *
footprint TAJC476K016RNJ_CAPMC6032X260_TAJC476K016RNJ(Primary)
pins: NEG, POS

## TB6612FNG(O,C,8,EL
designator U?
Value: *
footprint SOP65P760X160-24N
pins: 1 AO1@1 (out), 2 AO1@2 (out), 3 PGND1@1, 4 PGND1@2, 5 AO2@1 (out), 6 AO2@2 (out), 7 BO2@1 (out), 8 BO2@2 (out), 9 PGND2@1, 10 PGND2@2, 11 BO1@1 (out), 12 BO1@2 (out), 13 VM2 (power), 14 VM3 (power), 15 PWMB (in), 16 BIN2 (in), 17 BIN1 (in), 18 GND, 19 STBY (in), 20 VCC (power), 21 AIN1 (in), 22 AIN2 (in), 23 PWMA (in), 24 VM1 (power)

## TC33X-2-103E
designator VR?
Value: *
footprint TRIM_TC33X-2-103E
pins: 1, 2, 3

## TEMT6000X01
designator U?
Value: *
footprint XCVR_TEMT6000X01
pins: 1 E, 3 C

## TL3342F160QG
designator S?
Value: *
footprint SW_TL3342F160QG
pins: 1, 2, 3, 4

## TMP36GT9Z
designator U?
Value: *
footprint TO127P419X483X533-3P
pins: 1 +VS (power), 2 VOUT (out), 3 GND (power)

## TMP102AIDRLT
designator U?
Value: *
footprint SOTFL50P160X60-6N
pins: 1 SCL (in), 2 GND (power), 3 ALERT (out), 4 ADD0 (in), 5 V+ (power), 6 SDA (io)

## TS-1109
designator S?
Value: *
footprint SW_TS-1109
pins: 1 A, 2 B, 3 C, 4 D

## U.FL-R-SMT(10)
designator J?
Value: *
footprint HRS_U.FL-R-SMT(10)_U.FL-R-SMT(10)(Primary)
pins: GND1 GND, GND2 GND, SIG (io)

## UA7805CKTTR
designator U?
Value: *
footprint TO254P1524X483-4N_UA7805CKTTR(Primary)
pins: 1 IN (in), 2 GND, 3 OUT (out), TAB GND

## UR502DC
designator D?
Value: *
footprint LED_UR502DC_UR502DC(Primary)
pins: A, C

## VHR-2N
designator P?
Value: *
footprint JST_VHR-2N
pins: 1, 2

## VHR-3N
designator P?
Value: *
footprint JST_VHR-3N
pins: 1, 2, 3

## W5500
designator U?
Value: *
footprint QFP50P900X900X160-48N
pins: 1 TXN (out), 2 TXP (out), 3 AGND, 4 AVDD (power), 5 RXN (in), 6 RXP (in), 7 DNC (io), 8 AVDD (power), 9 AGND, 10 EXRES1 (io), 11 AVDD (power), 14 AGND, 15 AVDD (power), 16 AGND, 17 AVDD (power), 18 VBG (out), 19 AGND, 20 TOCAP (out), 21 AVDD (power), 22 1V2O (out), 23 RSVD, 24 SPDLED (out), 25 LINKLED (out), 26 DUPLED (out), 27 ACTLED (out), 28 VDD (power), 29 GND, 30 XI (in), 31 XO (out), 32 ~{SCSN} (in), 33 SCLK (in), 34 MISO (out), 35 MOSI (in), 36 ~{INTN} (in), 37 ~{RSTN} (in), 38 RSVD, 39 RSVD, 40 RSVD, 41 RSVD, 42 RSVD, 43 PMODE2 (in), 44 PMODE1 (in), 45 PMODE0 (in), 48 AGND

## WP7113SGC
designator D?
Value: *
footprint LED_WP7113SGC_WP7113SGC(Primary)
pins: A, C

## WP7113SRD/D
designator D?
Value: *
footprint LED_WP7113SRD/D_WP7113SRD/D(Primary)
pins: A, C

## WP7113SYD
designator D?
Value: *
footprint LED_WP7113SYD_WP7113SYD(Primary)
pins: A, C

## WS2812B
designator D?
Value: *
footprint LED_WS2812B
pins: 1 VDD (power), 2 DOUT (out), 3 VSS (power), 4 DIN (in)

## WSLP1206R0500FEA
designator R?
Value: *
footprint RESC3216X90
pins: 1, 2

## X053201602002
designator Y?
Value: *
footprint X053201602002_OSCCC500X320X135
pins: 1, 2

## XHP-2
designator P?
Value: *
footprint JST_XHP-2
pins: 1, 2

## XHP-3
designator P?
Value: *
footprint JST_XHP-3
pins: 1, 2, 3

## XHP-4
designator P?
Value: *
footprint JST_XHP-4
pins: 1, 2, 3, 4

## ZX62D-B-5P8
designator P?
Value: *
footprint HRS_ZX62D-B-5P8
pins: 1 VCC (power), 2 D-, 3 D+, 4 ID, 5 GND (power)